# EAGLE library part DRV8825 (library texas_ffmc)
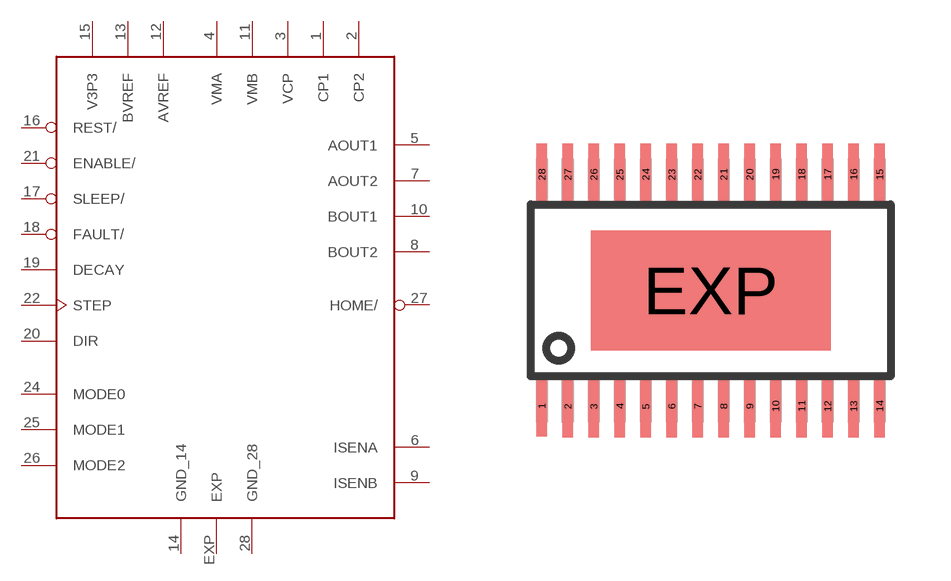
[diagram p119: symbol with the pads of HTSSOP28PWP; footprint HTSSOP28PWP]

Designator prefix -

## DRV8825  [HTSSOP28PWP]
1  CP1
2  CP2
3  VCP
4  VMA  sup
5  AOUT1  in
6  ISENA
7  AOUT2  out
8  BOUT2  out
9  ISENB
10  BOUT1  out
11  VMB  sup
12  AVREF
13  BVREF
14  GND_14  sup
15  V3P3
16  REST/  in
17  SLEEP/  in
18  FAULT/  in
19  DECAY  in
20  DIR  in
21  ENABLE/  in
22  STEP  in
24  MODE0
25  MODE1  in
26  MODE2  in
27  HOME/  out
28  GND_28  sup
EXP  EXP  sup

## Footprint HTSSOP28PWP (pad centres in mm)
TPS40055PWP (R-PDSO-G**) PowerPAD (TM) 28 pol. PLASTIC SMALL-OUTLINE PACKAGE Source: www.ti.com ... TPS40055 package.pdf & slma002.pdf
smd 0.27 x 1.5: 1 -4.225,-2.9
smd 0.27 x 1.55: 2 -3.575,-2.9; 3 -2.925,-2.9; 4 -2.275,-2.9; 5 -1.625,-2.9; 6 -0.975,-2.9; 7 -0.325,-2.9; 8 0.325,-2.9; 9 0.975,-2.9; 10 1.625,-2.9; 11 2.275,-2.9; 12 2.925,-2.9; 13 3.575,-2.9; 14 4.225,-2.9; 15 4.225,2.9; 16 3.575,2.9; 17 2.925,2.9; 18 2.275,2.9; 19 1.625,2.9; 20 0.975,2.9; 21 0.325,2.9; 22 -0.325,2.9; 23 -0.975,2.9; 24 -1.625,2.9; 25 -2.275,2.9; 26 -2.925,2.9; 27 -3.575,2.9; 28 -4.225,2.9
smd 6 x 3: EXP 0,0